# Altium footprint library 640454-4.PcbLib: 1 footprints
Each footprint in its own frame and in the unit in brackets; x right, y up, seen from the top. Pads: shape width x height; smd on the part's side, far side on the other; paste and mask are expansions set on the pad; w line width, h text height; cw(c..) or ccw(c..) is an arc to the next point about the centre after c.
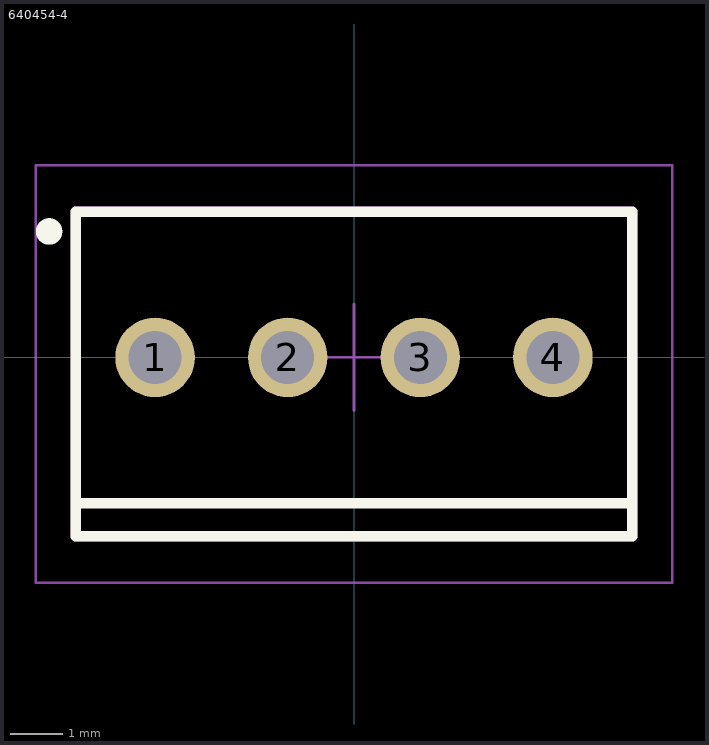
[diagram p0: the footprint, top view; thin cyan lines are the x and y axes]

## 640454-4 [mil]
pads (4):
  round 60 hole 40: 1(-150,0) 2(-50,0) 3(50,0) 4(150,0)
Top Overlay:
  circle w10: c-230,95 r5
  lines w7.87: -210,-110 210,-110 ; -210,-135 -210,110 210,110 210,-135 -210,-135
Mechanical 15:
  lines w1.97: -40,0 40,0 ; 0,-40 0,40 ; -240,-170 240,-170 240,145 -240,145 -240,-170
Mechanical 17:
  lines w7.87: -210,-135 -210,110 210,110 210,-135 -210,-135
  text ".Designator" at -190,-40 h30
Mechanical 19:
  lines w7.87: -210,-135 210,-135 210,110 -210,110 -210,-135
  text ".Comment" at -185,-35 h30
3D body: height 394.88, standoff -140.16, extent -200,-125.2 200,100